# Altium footprint library Connector.PcbLib: 240 footprints (part 14 of 15)
Each footprint in its own frame and in the unit in brackets; x right, y up, seen from the top. Pads: shape width x height; smd on the part's side, far side on the other; paste and mask are expansions set on the pad; w line width, h text height; cw(c..) or ccw(c..) is an arc to the next point about the centre after c.
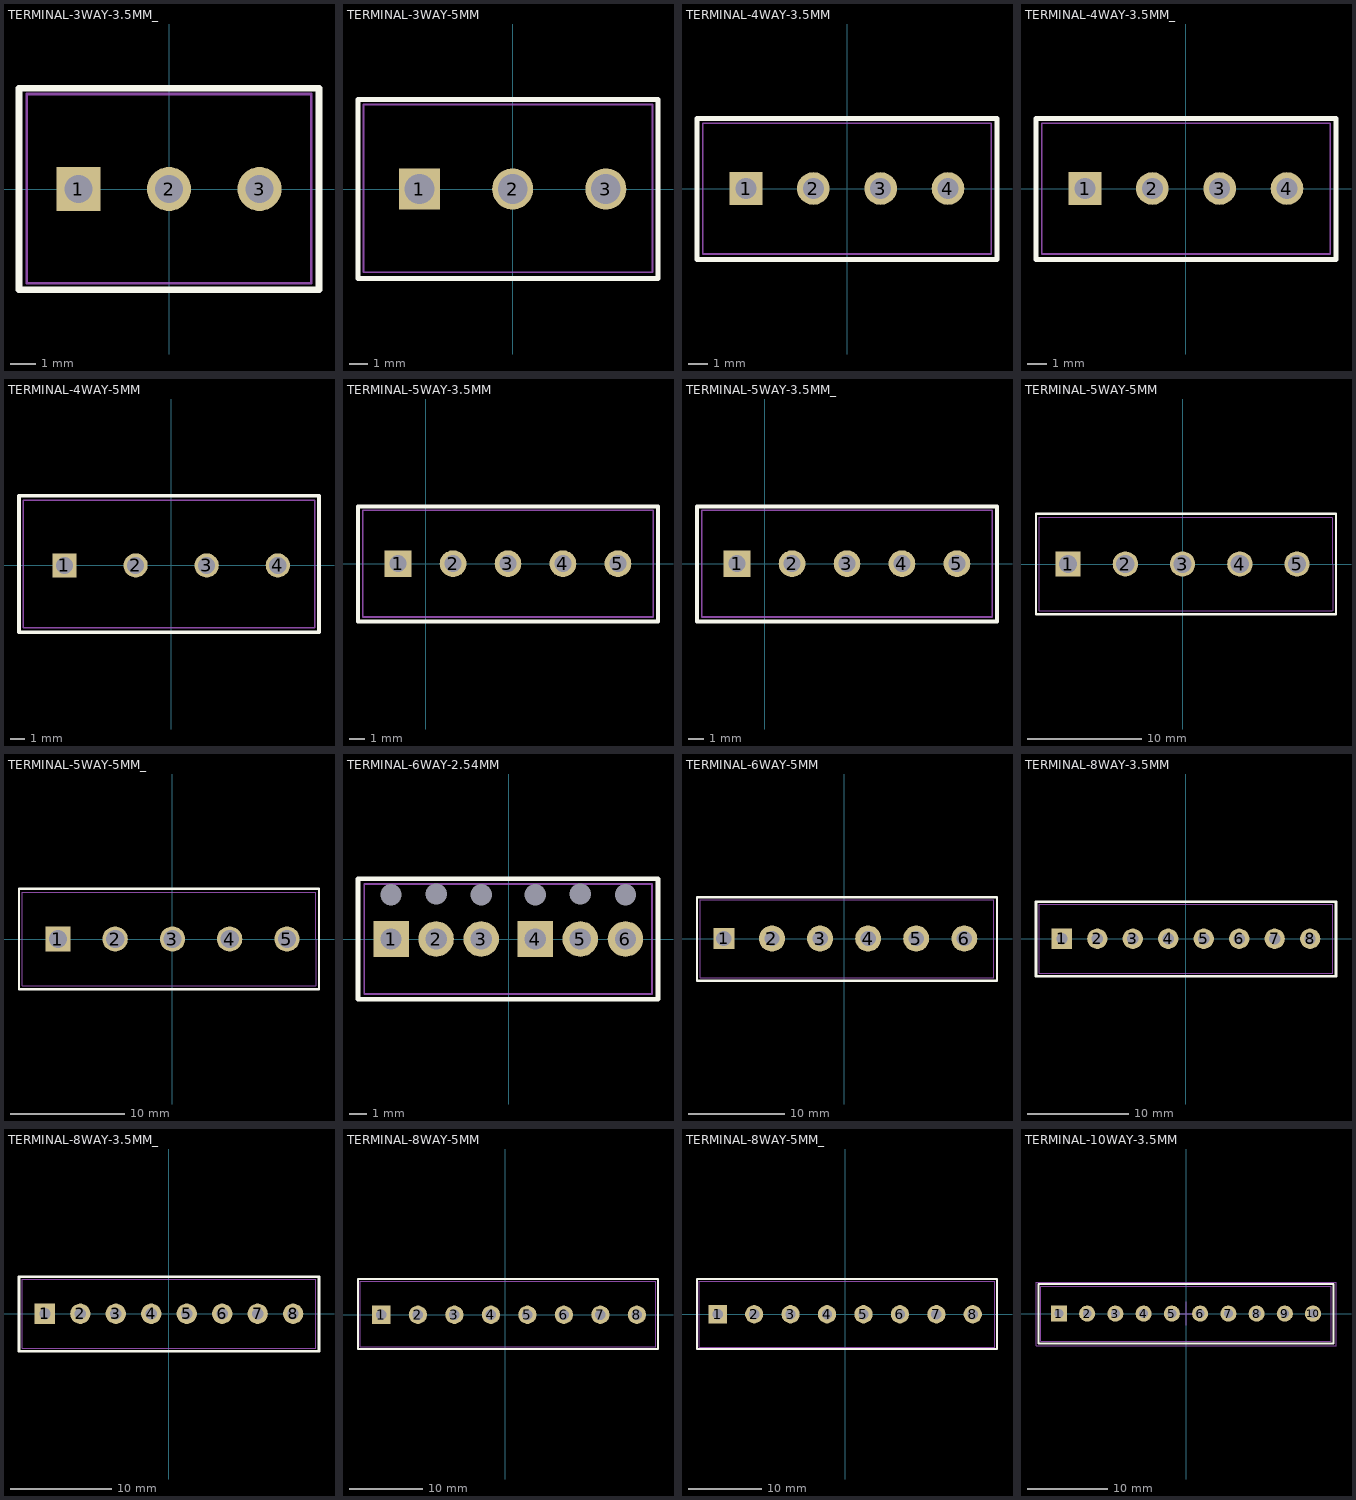
[diagram p13: the footprints below, top view; thin cyan lines are the x and y axes]

## TERMINAL-3WAY-3.5MM_ [mm]
pads (3):
  rect 1.7x1.7 hole 1.1: 1(-3.5,0)
  round 1.7 hole 1.1: 2(0,0) 3(3.5,0)
Top Overlay:
  lines w0.254: -5.8,-3.9 -5.8,3.9 5.8,3.9 5.8,-3.9 -5.8,-3.9
Mechanical 7:
  lines w0.1: -5.5,-3.65 5.5,-3.65 5.5,3.675 -5.5,3.675 -5.5,-3.65
3D body "37876.stp": height 8.5, standoff -3.5, extent -5.5,-3.625 5.5,3.675

## TERMINAL-3WAY-5MM [mm]
pads (3):
  rect 2.2x2.2 hole 1.6: 1(-5,0)
  round 2.2 hole 1.6: 2(0,0) 3(5,0)
Top Overlay:
  lines w0.254: -8.3,-4.8 7.8,-4.8 7.8,4.8 -8.3,4.8 -8.3,-4.8
Mechanical 7:
  lines w0.1: -8,-4.469 -8,4.531 7.5,4.531 7.5,-4.469 -8,-4.469
3D body "DT128V_3.STEP": height 15.2, standoff -3.5, extent -8.025,-4.5 7.475,4.5

## TERMINAL-4WAY-3.5MM [mm]
pads (4):
  rect 1.7x1.7 hole 1.1: 1(-5.25,0)
  round 1.7 hole 1.1: 2(-1.75,0) 3(1.75,0) 4(5.25,0)
Top Overlay:
  lines w0.254: -7.8,-3.7 7.8,-3.7 7.8,3.65 -7.8,3.65 -7.8,-3.7
Mechanical 7:
  lines w0.1: -7.5,-3.4 -7.5,3.395 7.5,3.395 7.5,-3.4 -7.5,-3.4
3D body "User Library-DG350-3,5-02P.step": height 8.4, standoff -3.4, extent -7.5,-3.375 0.5,3.425
3D body "User Library-DG350-3,5-02P.step": height 8.4, standoff -3.4, extent -0.5,-3.375 7.5,3.425

## TERMINAL-4WAY-3.5MM_ [mm]
pads (4):
  rect 1.7x1.7 hole 1.1: 1(-5.25,0)
  round 1.7 hole 1.1: 2(-1.75,0) 3(1.75,0) 4(5.25,0)
Top Overlay:
  lines w0.254: -7.8,-3.7 -7.8,3.65 7.8,3.65 7.8,-3.7 -7.8,-3.7
Mechanical 7:
  lines w0.1: -7.5,-3.4 7.5,-3.4 7.5,3.395 -7.5,3.395 -7.5,-3.4
3D body "User Library-DG350-3,5-02P.step": height 8.4, standoff -3.4, extent -7.5,-3.425 0.5,3.375
3D body "User Library-DG350-3,5-02P.step": height 8.4, standoff -3.4, extent -0.5,-3.425 7.5,3.375

## TERMINAL-4WAY-5MM [mm]
pads (4):
  rect 1.7x1.7 hole 1.2: 1(-7.5,0)
  round 1.7 hole 1.2: 2(-2.5,0) 3(2.5,0) 4(7.5,0)
Top Overlay:
  lines w0.254: -10.7,-4.7 10.4,-4.7 10.4,4.9 -10.7,4.9 -10.7,-4.7
Mechanical 7:
  lines w0.1: -10.4,-4.4 10.1,-4.4 10.1,4.6 10,4.6 -10.4,4.6 -10.4,-4.4
3D body "DT128V_4.STEP": height 15.2, standoff -3.5, extent -10.4,-4.4 10.1,4.6

## TERMINAL-5WAY-3.5MM [mm]
pads (5):
  rect 1.7x1.7 hole 1.1: 1(-1.75,0)
  round 1.7 hole 1.1: 2(1.75,0) 3(5.25,0) 4(8.75,0) 5(12.25,0)
Top Overlay:
  lines w0.254: -4.3,-3.7 -4.3,3.65 14.8,3.65 14.8,-3.7 -4.3,-3.7
Mechanical 7:
  lines w0.1: -4,-3.4 14.5,-3.4 14.5,3.395 -4,3.395 -4,-3.4
3D body "User Library-DG350-3,5-03P.step": height 8.4, standoff -3.5, extent 3,-3.375 14.5,3.425
3D body "User Library-DG350-3,5-02P.step": height 8.4, standoff -3.4, extent -4,-3.375 4,3.425

## TERMINAL-5WAY-3.5MM_ [mm]
pads (5):
  rect 1.7x1.7 hole 1.1: 1(-1.75,0)
  round 1.7 hole 1.1: 2(1.75,0) 3(5.25,0) 4(8.75,0) 5(12.25,0)
Top Overlay:
  lines w0.254: -4.3,-3.7 14.8,-3.7 14.8,3.65 -4.3,3.65 -4.3,-3.7
Mechanical 7:
  lines w0.1: -4,-3.4 -4,3.395 14.5,3.395 14.5,-3.4 -4,-3.4
3D body "User Library-DG350-3,5-02P.step": height 8.4, standoff -3.4, extent 6.5,-3.425 14.5,3.375
3D body "User Library-DG350-3,5-03P.step": height 8.4, standoff -3.5, extent -4,-3.425 7.5,3.375

## TERMINAL-5WAY-5MM [mm]
pads (5):
  rect 2.2x2.2 hole 1.6: 1(-10,0)
  round 2.2 hole 1.6: 2(-5,0) 3(0,0) 4(5,0) 5(10,0)
Top Overlay:
  lines w0.2: -12.8,-4.4 -12.8,4.4 13.4,4.4 13.4,-4.4 -12.8,-4.4
Mechanical 11:
  lines w0.1: 13.07,-4.1 -12.5,-4.1 -12.5,4.1 13.07,4.1 ; 13.07,4.05 13.099,-4.1
3D body "37821.stp": height 10, standoff -3.5, extent -12.5,-4.1 13.07,4.05

## TERMINAL-5WAY-5MM_ [mm]
pads (5):
  rect 2.2x2.2 hole 1.6: 1(-10,0)
  round 2.2 hole 1.6: 2(-5,0) 3(0,0) 4(5,0) 5(10,0)
Top Overlay:
  lines w0.2: -13.4,-4.4 12.8,-4.4 12.8,4.4 -13.4,4.4 -13.4,-4.4
Mechanical 11:
  lines w0.1: -13.1,-4.1 -13.1,4.1 12.489,4.1 12.518,-4.1 -13.1,-4.1
3D body "37821.stp": height 10, standoff -3.5, extent -13.085,-4.05 12.485,4.1

## TERMINAL-6WAY-2.54MM [mm]
pads (12):
  rect 2x2 hole 1.2: 1(-6.64,0) 4(1.485,0)
  round 2 hole 1.2: 2(-4.1,0) 3(-1.56,0) 5(4.025,0) 6(6.565,0)
  round 0 hole 1.2 unplated: ""(-6.64,2.5) ""(-4.1,2.54) ""(-1.56,2.5) ""(1.485,2.5) ""(4.025,2.54) ""(6.565,2.5)
Top Overlay:
  lines w0.254: -8.5,-3.4 8.4,-3.4 8.4,3.4 -8.5,3.4 -8.5,-3.4
Mechanical 7:
  lines w0.1: -8.15,-3.1 8.055,-3.1 8.055,3.1 -8.15,3.1 -8.15,-3.1 ; -8.15,-3.1 -8.15,-3.1
3D body "13997.stp": height 8.5, standoff -3.5, extent -8.15,-3.1 -0.07,3.1
3D body "13997.stp": height 8.5, standoff -3.5, extent -0.025,-3.1 8.055,3.1

## TERMINAL-6WAY-5MM [mm]
pads (6):
  rect 2.2x2.2 hole 1.6: 1(-12.5,0)
  round 2.7 hole 1.6: 2(-7.5,0) 3(-2.5,0) 4(2.5,0) 5(7.5,0) 6(12.5,0)
Top Overlay:
  lines w0.254: -15.3,-4.4 -4.35,-4.4 6.05,-4.4 15.9,-4.4 15.9,4.3 4.55,4.3 -5.85,4.3 -15.3,4.3 -15.3,-4.4
Mechanical 7:
  lines w0.1: -14.985,-4.1 -14.985,4.05 15.585,4.05 15.585,-4.1 -14.985,-4.1
3D body "37822.stp": height 10, standoff -3.5, extent -14.985,-4.1 15.585,4.05

## TERMINAL-8WAY-3.5MM [mm]
pads (8):
  rect 2x2 hole 1.1: 1(-12.25,0)
  round 2 hole 1.1: 2(-8.75,0) 3(-5.25,0) 4(-1.75,0) 5(1.75,0) 6(5.25,0) 7(8.75,0) 8(12.25,0)
Top Overlay:
  lines w0.254: -14.8,-3.7 14.8,-3.7 14.8,3.65 -14.8,3.65 -14.8,-3.7
Mechanical 7:
  lines w0.1: -14.5,-3.4 -14.5,3.395 14.5,3.395 14.5,-3.4 -14.5,-3.4
3D body "User Library-DG350-3,5-03P.step": height 8.4, standoff -3.5, extent 3,-3.375 14.5,3.425
3D body "User Library-DG350-3,5-02P.step": height 8.4, standoff -3.4, extent -14.5,-3.375 -6.5,3.425
3D body "User Library-DG350-3,5-03P.step": height 8.4, standoff -3.5, extent -7.5,-3.375 4,3.425

## TERMINAL-8WAY-3.5MM_ [mm]
pads (8):
  rect 2x2 hole 1.1: 1(-12.25,0)
  round 2 hole 1.1: 2(-8.75,0) 3(-5.25,0) 4(-1.75,0) 5(1.75,0) 6(5.25,0) 7(8.75,0) 8(12.25,0)
Top Overlay:
  lines w0.254: -14.8,-3.7 -14.8,3.65 14.8,3.65 14.8,-3.7 -14.8,-3.7
Mechanical 7:
  lines w0.1: -14.5,-3.4 14.5,-3.4 14.5,3.395 -14.5,3.395 -14.5,-3.4
3D body "User Library-DG350-3,5-03P.step": height 8.4, standoff -3.5, extent -4,-3.425 7.5,3.375
3D body "User Library-DG350-3,5-02P.step": height 8.4, standoff -3.4, extent 6.5,-3.425 14.5,3.375
3D body "User Library-DG350-3,5-03P.step": height 8.4, standoff -3.5, extent -14.5,-3.425 -3,3.375

## TERMINAL-8WAY-5MM [mm]
pads (8):
  rect 2.5x2.5 hole 1.4: 1(-16.95,0)
  round 2.5 hole 1.4: 2(-11.95,0) 3(-6.95,0) 4(-1.95,0) 5(3.05,0) 6(8.05,0) 7(13.05,0) 8(18.05,0)
Top Overlay:
  lines w0.254: -20.15,-4.7 20.95,-4.7 20.95,4.9 -20.15,4.9 -20.15,-4.7
Mechanical 7:
  lines w0.1: -19.85,-4.4 20.65,-4.4 20.65,4.6 -19.85,4.6 -19.85,-4.4
3D body "DT128V_4.STEP": height 15.2, standoff -3.5, extent -19.85,-4.4 0.65,4.6
3D body "DT128V_4.STEP": height 15.2, standoff -3.5, extent 0.15,-4.4 20.65,4.6

## TERMINAL-8WAY-5MM_ [mm]
pads (8):
  rect 2.5x2.5 hole 1.4: 1(-17.5,0)
  round 2.5 hole 1.4: 2(-12.5,0) 3(-7.5,0) 4(-2.5,0) 5(2.5,0) 6(7.5,0) 7(12.5,0) 8(17.5,0)
Top Overlay:
  lines w0.254: -20.35,-4.775 -20.35,4.85 20.825,4.85 20.825,-4.775 -20.35,-4.775
Mechanical 7:
  lines w0.1: -20.025,-4.5 -20.025,4.525 20.5,4.525 20.5,-4.5 -20.025,-4.5
3D body "DT128V_4.STEP": height 15.2, standoff -3.5, extent 0,-4.475 20.5,4.525
3D body "DT128V_4.STEP": height 15.2, standoff -3.5, extent -20,-4.475 0.5,4.525

## TERMINAL-10WAY-3.5MM [mm]
pads (10):
  rect 2x2 hole 1.1: 1(-15.75,0)
  round 2 hole 1.1: 2(-12.25,0) 3(-8.75,0) 4(-5.25,0) 5(-1.75,0) 6(1.75,0) 7(5.25,0) 8(8.75,0) 9(12.25,0) 10(15.75,0)
Top Overlay:
  lines w0.254: -18.3,-3.7 -18.3,3.65 18.3,3.65 18.3,-3.7 -18.3,-3.7
Mechanical 9:
  text ".Designator" at -6.2,-6.5 h3.5
Mechanical 10:
  text ".Comment" at -3.4,-8.5 h2
Mechanical 11:
  lines w0.15: -18,-3.4 18,-3.4 18,3.395 -18,3.395 -18,-3.4
Mechanical 15:
  lines w0.1: -1.5,0 1.5,0 ; 0,-1.47 0,1.5 ; -18.6,-4 18.6,-4 18.6,3.9 -18.6,3.9 -18.6,-4
3D body "User Library-DG350-3,5-02P.step": height 8.4, standoff -3.4, extent 10,-3.375 18,3.425
3D body "User Library-DG350-3,5-03P.step": height 8.4, standoff -3.5, extent -11,-3.375 0.5,3.425
3D body "User Library-DG350-3,5-02P.step": height 8.4, standoff -3.4, extent -18,-3.375 -10,3.425
3D body "User Library-DG350-3,5-03P.step": height 8.4, standoff -3.5, extent -0.5,-3.375 11,3.425